# Altium footprint library QuadPCBLibrary.PcbLib: 1 footprints
Each footprint in its own frame and in the unit in brackets; x right, y up, seen from the top. Pads: shape width x height; smd on the part's side, far side on the other; paste and mask are expansions set on the pad; w line width, h text height; cw(c..) or ccw(c..) is an arc to the next point about the centre after c.
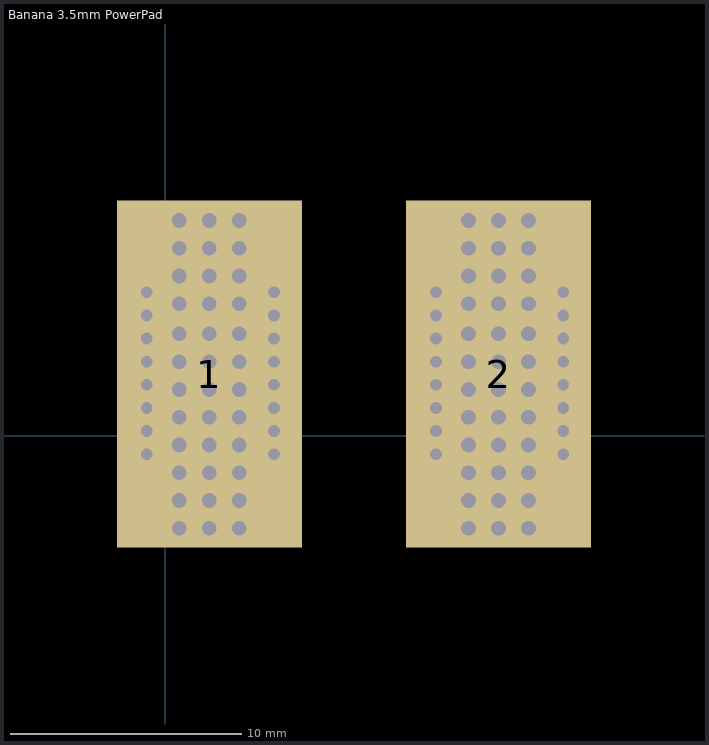
[diagram p0: the footprint, top view; thin cyan lines are the x and y axes]

## Banana 3.5mm PowerPad [mm]
pads (2):
  rect 8x15 all layers, no hole: 1(1.905,2.667) 2(14.405,2.667)
via 13.1,-4 diameter 0.635 hole 0.635
via 14.4,-4 diameter 0.635 hole 0.635
via 15.7,-4 diameter 0.635 hole 0.635
via 15.7,-2.8 diameter 0.635 hole 0.635
via 14.4,-2.8 diameter 0.635 hole 0.635
via 13.1,-2.8 diameter 0.635 hole 0.635
via 15.7,-1.6 diameter 0.635 hole 0.635
via 14.4,-1.6 diameter 0.635 hole 0.635
via 13.1,-1.6 diameter 0.635 hole 0.635
via 15.7,-0.4 diameter 0.635 hole 0.635
via 14.4,-0.4 diameter 0.635 hole 0.635
via 13.1,-0.4 diameter 0.635 hole 0.635
via 13.1,9.3 diameter 0.635 hole 0.635
via 14.4,9.3 diameter 0.635 hole 0.635
via 15.7,9.3 diameter 0.635 hole 0.635
via 13.1,8.1 diameter 0.635 hole 0.635
via 14.4,8.1 diameter 0.635 hole 0.635
via 15.7,8.1 diameter 0.635 hole 0.635
via 13.1,6.9 diameter 0.635 hole 0.635
via 14.4,6.9 diameter 0.635 hole 0.635
via 15.7,6.9 diameter 0.635 hole 0.635
via 15.7,5.7 diameter 0.635 hole 0.635
via 14.4,5.7 diameter 0.635 hole 0.635
via 13.1,5.7 diameter 0.635 hole 0.635
via 13.1,4.4 diameter 0.635 hole 0.635
via 14.4,4.4 diameter 0.635 hole 0.635
via 15.7,4.4 diameter 0.635 hole 0.635
via 13.1,3.2 diameter 0.635 hole 0.635
via 14.4,3.2 diameter 0.635 hole 0.635
via 15.7,3.2 diameter 0.635 hole 0.635
via 13.1,2 diameter 0.635 hole 0.635
via 14.4,2 diameter 0.635 hole 0.635
via 15.7,2 diameter 0.635 hole 0.635
via 15.7,0.8 diameter 0.635 hole 0.635
via 14.4,0.8 diameter 0.635 hole 0.635
via 13.1,0.8 diameter 0.635 hole 0.635
via 17.2,-0.8 diameter 0.508 hole 0.508
via 17.2,0.2 diameter 0.508 hole 0.508
via 17.2,1.2 diameter 0.508 hole 0.508
via 17.2,2.2 diameter 0.508 hole 0.508
via 17.2,3.2 diameter 0.508 hole 0.508
via 17.2,4.2 diameter 0.508 hole 0.508
via 17.2,5.2 diameter 0.508 hole 0.508
via 17.2,6.2 diameter 0.508 hole 0.508
via 11.7,6.2 diameter 0.508 hole 0.508
via 11.7,5.2 diameter 0.508 hole 0.508
via 11.7,4.2 diameter 0.508 hole 0.508
via 11.7,3.2 diameter 0.508 hole 0.508
via 11.7,2.2 diameter 0.508 hole 0.508
via 11.7,1.2 diameter 0.508 hole 0.508
via 11.7,0.2 diameter 0.508 hole 0.508
via 11.7,-0.8 diameter 0.508 hole 0.508
via 0.6,-4 diameter 0.635 hole 0.635
via 1.9,-4 diameter 0.635 hole 0.635
via 3.2,-4 diameter 0.635 hole 0.635
via 3.2,-2.8 diameter 0.635 hole 0.635
via 1.9,-2.8 diameter 0.635 hole 0.635
via 0.6,-2.8 diameter 0.635 hole 0.635
via 3.2,-1.6 diameter 0.635 hole 0.635
via 1.9,-1.6 diameter 0.635 hole 0.635
via 0.6,-1.6 diameter 0.635 hole 0.635
via 3.2,-0.4 diameter 0.635 hole 0.635
via 1.9,-0.4 diameter 0.635 hole 0.635
via 0.6,-0.4 diameter 0.635 hole 0.635
via 0.6,9.3 diameter 0.635 hole 0.635
via 1.9,9.3 diameter 0.635 hole 0.635
via 3.2,9.3 diameter 0.635 hole 0.635
via 0.6,8.1 diameter 0.635 hole 0.635
via 1.9,8.1 diameter 0.635 hole 0.635
via 3.2,8.1 diameter 0.635 hole 0.635
via 0.6,6.9 diameter 0.635 hole 0.635
via 1.9,6.9 diameter 0.635 hole 0.635
via 3.2,6.9 diameter 0.635 hole 0.635
via 3.2,5.7 diameter 0.635 hole 0.635
via 1.9,5.7 diameter 0.635 hole 0.635
via 0.6,5.7 diameter 0.635 hole 0.635
via 0.6,4.4 diameter 0.635 hole 0.635
via 1.9,4.4 diameter 0.635 hole 0.635
via 3.2,4.4 diameter 0.635 hole 0.635
via 0.6,3.2 diameter 0.635 hole 0.635
via 1.9,3.2 diameter 0.635 hole 0.635
via 3.2,3.2 diameter 0.635 hole 0.635
via 0.6,2 diameter 0.635 hole 0.635
via 1.9,2 diameter 0.635 hole 0.635
via 3.2,2 diameter 0.635 hole 0.635
via 3.2,0.8 diameter 0.635 hole 0.635
via 1.9,0.8 diameter 0.635 hole 0.635
via 0.6,0.8 diameter 0.635 hole 0.635
via 4.7,-0.8 diameter 0.508 hole 0.508
via 4.7,0.2 diameter 0.508 hole 0.508
via 4.7,1.2 diameter 0.508 hole 0.508
via 4.7,2.2 diameter 0.508 hole 0.508
via 4.7,3.2 diameter 0.508 hole 0.508
via 4.7,4.2 diameter 0.508 hole 0.508
via 4.7,5.2 diameter 0.508 hole 0.508
via 4.7,6.2 diameter 0.508 hole 0.508
via -0.8,6.2 diameter 0.508 hole 0.508
via -0.8,5.2 diameter 0.508 hole 0.508
via -0.8,4.2 diameter 0.508 hole 0.508
via -0.8,3.2 diameter 0.508 hole 0.508
via -0.8,2.2 diameter 0.508 hole 0.508
via -0.8,1.2 diameter 0.508 hole 0.508
via -0.8,0.2 diameter 0.508 hole 0.508
via -0.8,-0.8 diameter 0.508 hole 0.508